# Altium integrated library binder.IntLib: 1 symbol
Pins are listed as number, name and electrical type; pins without a type are passive.

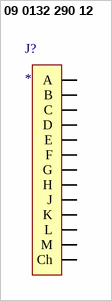
[diagram p0: symbol 09 0132 290 12]

## 09 0132 290 12
designator J?
footprint 09 0132 290 12 (Insert arrangement for MIL-STD-1560B 15-97)
pins: 1 Ch, A, B, C, D, E, F, G, H, J, K, L, M